# EAGLE library part PB86_SWITCH (library jason_eagle6)
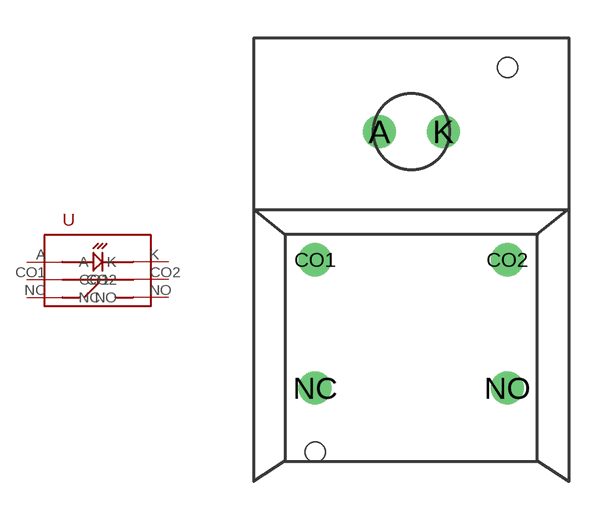
[diagram p67: symbol with the pads of PB86_SWITCH; footprint PB86_SWITCH]

Designator prefix -

## PB86_SWITCH  [PB86_SWITCH]
A  A
CO1  CO1
CO2  CO2
K  K
NC  NC
NO  NO

## Footprint PB86_SWITCH (pad centres in mm)
drill 0.8: A -1.27,5.08; CO1 -3.81,0; CO2 3.81,0; K 1.27,5.08; NC -3.81,-5.08; NO 3.81,-5.08
hole 0.8 at -3.81,-7.625
hole 0.8 at 3.81,7.625